# Altium schematic symbol library IN-S124AR.SchLib: 1 symbol
Pins are listed as number, name and electrical type; pins without a type are passive.

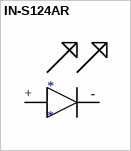
[diagram p0: symbol IN-S124AR]

## IN-S124AR
designator *
footprint IN-S124AR-2
footprint IN-S124AR-2_NO_HOLE
pins: +, -